# Altium footprint library 姿态封装.PcbLib: 3 footprints
Each footprint in its own frame and in the unit in brackets; x right, y up, seen from the top. Pads: shape width x height; smd on the part's side, far side on the other; paste and mask are expansions set on the pad; w line width, h text height; cw(c..) or ccw(c..) is an arc to the next point about the centre after c.
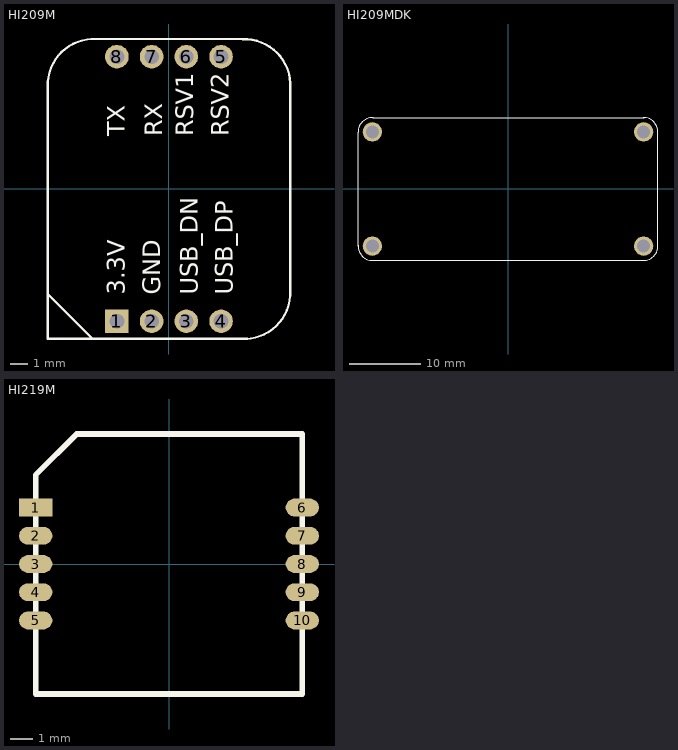
[diagram p0: the footprints below, top view; thin cyan lines are the x and y axes]

## HI209M [mm]
pads (8):
  rect 1.358x1.358 hole 0.85: 1(-3,-7.62)
  round 1.358 hole 0.85: 2(-1,-7.62) 3(1,-7.62) 4(3,-7.62) 5(3,7.62) 6(1,7.62) 7(-1,7.62) 8(-3,7.62)
Top Overlay:
  lines w0.127: -6.985,-6.058 -4.45,-8.593 ; -6.985,5.885 cw(c-4.343,5.992) -4.45,8.635 ; -6.985,6.144 -6.985,-8.637 4.523,-8.637 ; -4.494,8.635 4.383,8.635 ; 4.237,8.628 cw(c4.344,5.986) 6.987,6.093 ; 4.44,-8.644 ccw(c4.333,-6.001) 6.975,-5.894 ; 6.985,-6.175 6.985,6.032
  text "3.3V" at -2.54,-6.096 h1.02
  text "GND" at -0.508,-6.096 h1.02
  text "USB_DN" at 1.651,-6.096 h1.02
  text "USB_DP" at 3.683,-6.096 h1.02
  text "TX" at -2.54,3.048 h1.02
  text "RX" at -0.381,3.048 h1.02
  text "RSV1" at 1.397,3.048 h1.02
  text "RSV2" at 3.429,3.048 h1.02

## HI209MDK [mm]
pads (4):
  round 2.7 hole 1.8: ""(-19,-8) ""(-19,8) ""(19,-8) ""(19,8)
Top Overlay:
  lines w0.127: -21.008,-7.898 ccw(c-18.979,-7.971) -18.924,-10 ; -21,-8.017 -21,7.974 ; -21,7.916 cw(c-18.971,7.971) -18.897,9.999 ; -19.017,-10 18.938,-10 ; -18.974,10 19.047,10 ; 18.897,-9.992 ccw(c18.971,-7.963) 21,-7.908 ; 18.922,10 cw(c18.977,7.971) 21.005,7.897 ; 21,-7.938 21,8.047

## HI219M [mm]
pads (10):
  rect 1.5x0.8 smd: 1(-6,2.54)
  oval 1.5x0.8 smd: 2(-6,1.27) 3(-6,0) 4(-6,-1.27) 5(-6,-2.54) 6(6,2.54) 7(6,1.27) 8(6,0) 9(6,-1.27) 10(6,-2.54)
Top Overlay:
  lines w0.254: -6,-5.85 -6,4 -4.15,5.85 -4,5.85 6,5.85 6,-5.85 -6,-5.85